# EAGLE library part PINHD-1X10/0.050 (library headers)
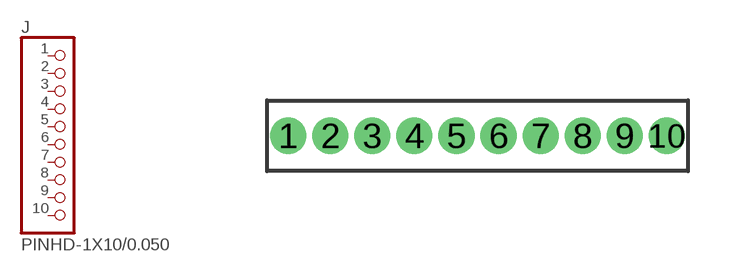
[diagram p7: symbol with the pads of 1X10-0.050; footprint 1X10-0.050]

Designator prefix J

## PINHD-1X10/0.050  [1X10-0.050]
1  1  pas
2  2  pas
3  3  pas
4  4  pas
5  5  pas
6  6  pas
7  7  pas
8  8  pas
9  9  pas
10  10  pas

## Footprint 1X10-0.050 (pad centres in mm)
drill 0.584: 1 -5.715,0; 2 -4.445,0; 3 -3.175,0; 4 -1.905,0; 5 -0.635,0; 6 0.635,0; 7 1.905,0; 8 3.175,0; 9 4.445,0; 10 5.715,0